# EAGLE library part PSH02-09 (library #PaJa_konektory)
Konektory se zamkem - vidlice - 9pin
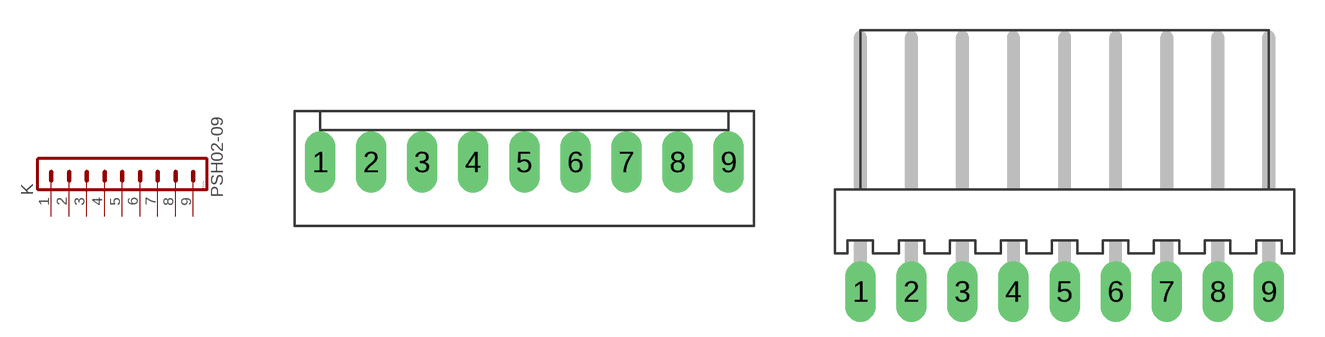
[diagram p12: symbol with the pads of PSH02-09P; footprints PSH02-09P, PSH02-09W]

Designator prefix K

## PSH02-09P  [PSH02-09P]
1  1  pas
2  2  pas
3  3  pas
4  4  pas
5  5  pas
6  6  pas
7  7  pas
8  8  pas
9  9  pas

## PSH02-09W  [PSH02-09W]
Pads as for PSH02-09P

## Footprint PSH02-09P (pad centres in mm)
drill 1.016 pad 1.422 long: 1 -10.16,0; 2 -7.62,0; 3 -5.08,0; 4 -2.54,0; 5 0,0; 6 2.54,0; 7 5.08,0; 8 7.62,0; 9 10.16,0

## Footprint PSH02-09W (pad centres in mm)
drill 1.016 pad 1.422 long: 1 -10.16,0; 2 -7.62,0; 3 -5.08,0; 4 -2.54,0; 5 0,0; 6 2.54,0; 7 5.08,0; 8 7.62,0; 9 10.16,0